# EAGLE library part BM14B-NSHSS-TBT (library NSH)
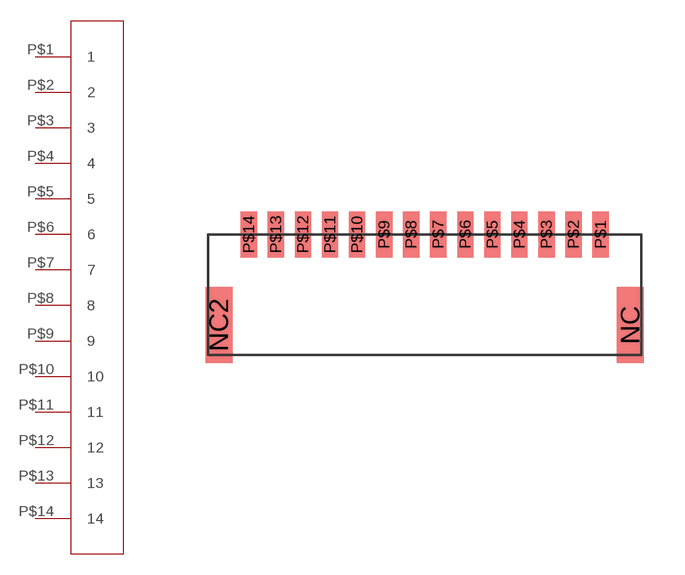
[diagram p8: symbol with the pads of BM14B-NSHSS-TBT; footprint BM14B-NSHSS-TBT]

Designator prefix -

## BM14B-NSHSS-TBT  [BM14B-NSHSS-TBT]
P$1  1
P$2  2
P$3  3
P$4  4
P$5  5
P$6  6
P$7  7
P$8  8
P$9  9
P$10  10
P$11  11
P$12  12
P$13  13
P$14  14

## Footprint BM14B-NSHSS-TBT (pad centres in mm)
smd 1 x 2.8: NC 7.6,1.4; NC2 -7.6,1.4
smd 0.6 x 1.7: P$1 6.5,4.75; P$2 5.5,4.75; P$3 4.5,4.75; P$4 3.5,4.75; P$5 2.5,4.75; P$6 1.5,4.75; P$7 0.5,4.75; P$8 -0.5,4.75; P$9 -1.5,4.75; P$10 -2.5,4.75; P$11 -3.5,4.75; P$12 -4.5,4.75; P$13 -5.5,4.75; P$14 -6.5,4.75